# Altium footprint library EEM_FMC_Carrier.PcbLib: 109 footprints (part 5 of 7)
Each footprint in its own frame and in the unit in brackets; x right, y up, seen from the top. Pads: shape width x height; smd on the part's side, far side on the other; paste and mask are expansions set on the pad; w line width, h text height; cw(c..) or ccw(c..) is an arc to the next point about the centre after c.
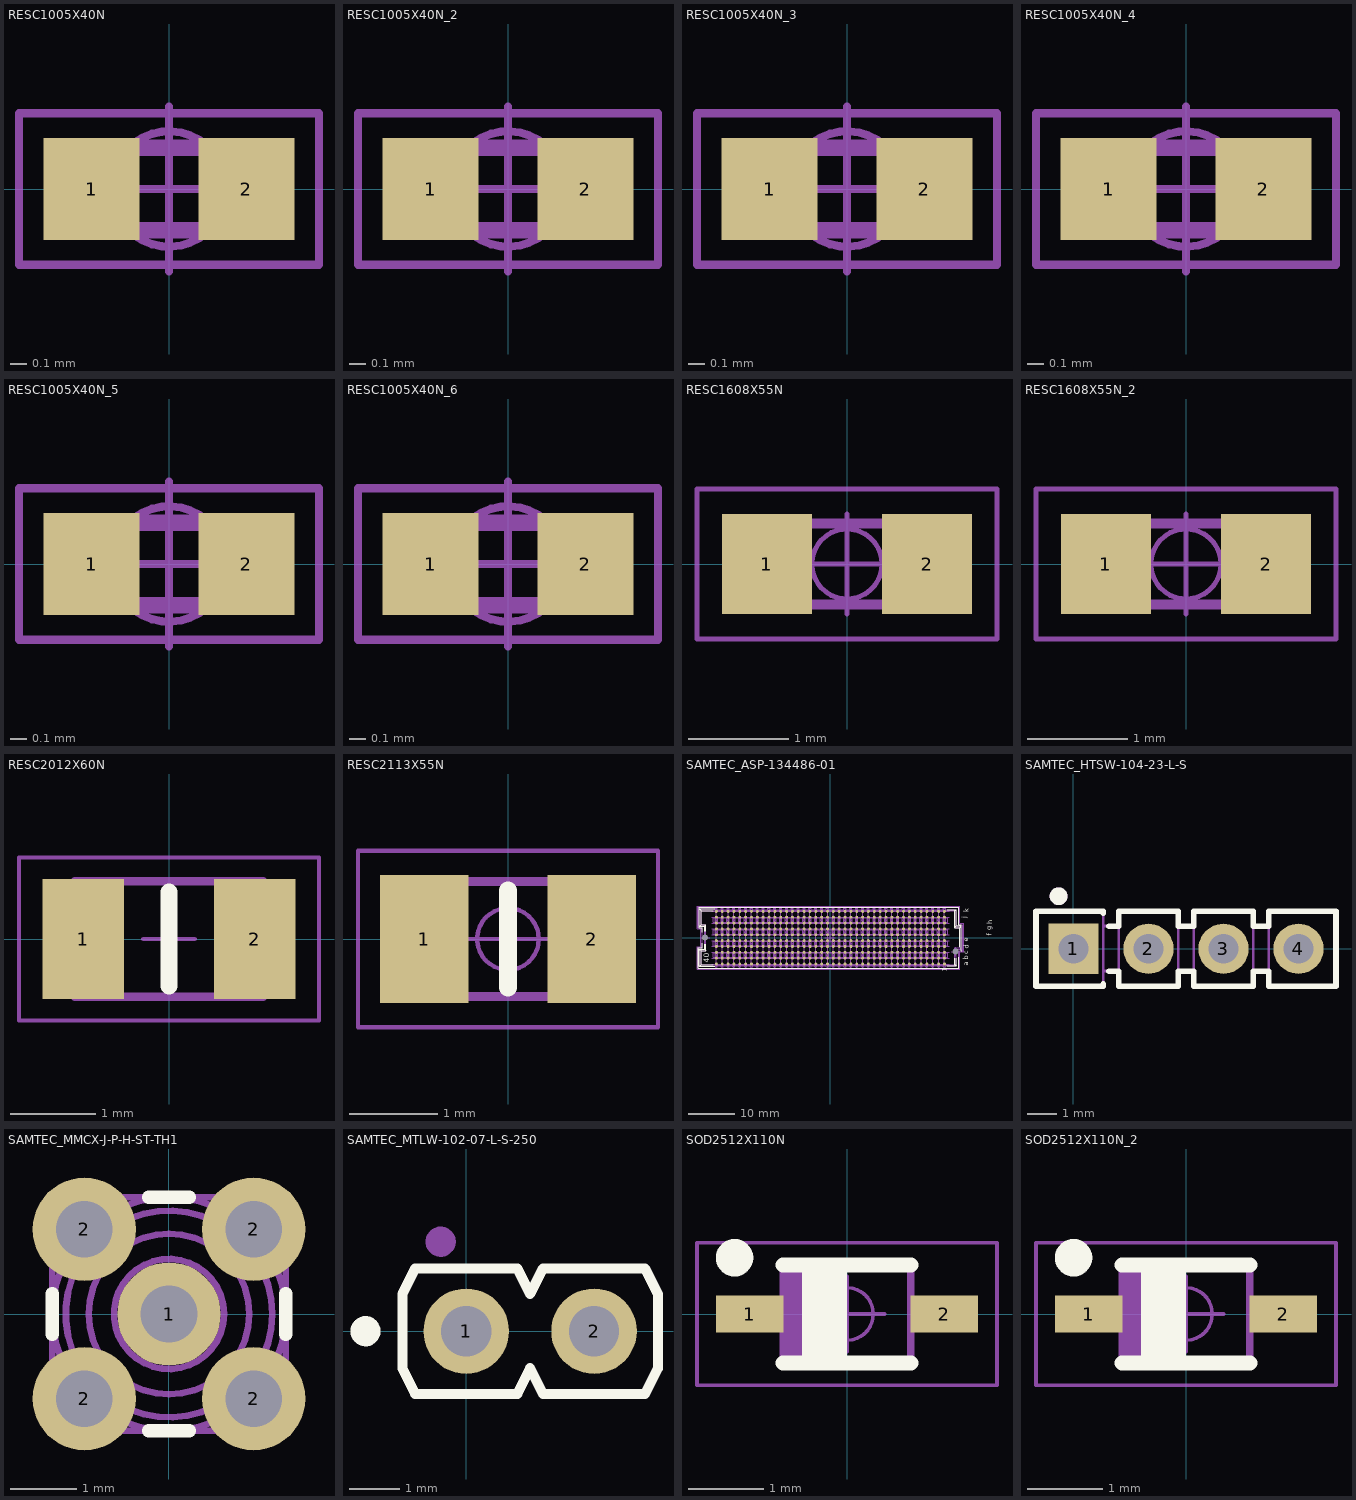
[diagram p4: the footprints below, top view; thin cyan lines are the x and y axes]

## RESC1005X40N [mm]
pads (2):
  rect 0.58x0.62 smd: 1(-0.47,0) 2(0.47,0)
Mechanical 14:
  lines w0.1: -0.5,-0.25 0.5,-0.25 0.5,0.25 -0.5,0.25 -0.5,-0.25
Mechanical 15:
  circle w0.05: c0,0 r0.35
  lines w0.05: -0.5,0 0.5,0 ; 0,-0.5 0,0.5 ; -0.91,-0.46 0.91,-0.46 0.91,0.46 -0.91,0.46 -0.91,-0.46
3D body "RESC1005X40N.stp": height 0.4, standoff 0, extent -0.525,-0.275 0.525,0.275

## RESC1005X40N_2 [mm]
pads (2):
  rect 0.58x0.62 smd: 1(-0.47,0) 2(0.47,0)
Mechanical 14:
  lines w0.1: -0.5,-0.25 0.5,-0.25 0.5,0.25 -0.5,0.25 -0.5,-0.25
Mechanical 15:
  circle w0.05: c0,0 r0.35
  lines w0.05: -0.5,0 0.5,0 ; 0,-0.5 0,0.5 ; -0.91,-0.46 0.91,-0.46 0.91,0.46 -0.91,0.46 -0.91,-0.46
3D body "RESC1005X40N.stp": height 0.4, standoff 0, extent -0.525,-0.275 0.525,0.275

## RESC1005X40N_3 [mm]
pads (2):
  rect 0.58x0.62 smd: 1(-0.47,0) 2(0.47,0)
Mechanical 14:
  lines w0.1: -0.5,-0.25 0.5,-0.25 0.5,0.25 -0.5,0.25 -0.5,-0.25
Mechanical 15:
  circle w0.05: c0,0 r0.35
  lines w0.05: -0.5,0 0.5,0 ; 0,-0.5 0,0.5 ; -0.91,-0.46 0.91,-0.46 0.91,0.46 -0.91,0.46 -0.91,-0.46
3D body "RESC1005X40N.stp": height 0.4, standoff 0, extent -0.525,-0.275 0.525,0.275

## RESC1005X40N_4 [mm]
pads (2):
  rect 0.58x0.62 smd: 1(-0.47,0) 2(0.47,0)
Mechanical 14:
  lines w0.1: -0.5,-0.25 0.5,-0.25 0.5,0.25 -0.5,0.25 -0.5,-0.25
Mechanical 15:
  circle w0.05: c0,0 r0.35
  lines w0.05: -0.5,0 0.5,0 ; 0,-0.5 0,0.5 ; -0.91,-0.46 0.91,-0.46 0.91,0.46 -0.91,0.46 -0.91,-0.46
3D body "RESC1005X40N.stp": height 0.4, standoff 0, extent -0.525,-0.275 0.525,0.275

## RESC1005X40N_5 [mm]
pads (2):
  rect 0.58x0.62 smd: 1(-0.47,0) 2(0.47,0)
Mechanical 14:
  lines w0.1: -0.5,-0.25 -0.5,0.25 0.5,0.25 0.5,-0.25 -0.5,-0.25
Mechanical 15:
  circle w0.05: c0,0 r0.35
  lines w0.05: -0.5,0 0.5,0 ; 0,-0.5 0,0.5 ; -0.91,-0.46 -0.91,0.46 0.91,0.46 0.91,-0.46 -0.91,-0.46
3D body "RESC1005X40N.stp": height 0.4, standoff 0, extent -0.525,-0.275 0.525,0.275

## RESC1005X40N_6 [mm]
pads (2):
  rect 0.58x0.62 smd: 1(-0.47,0) 2(0.47,0)
Mechanical 14:
  lines w0.1: -0.5,-0.25 0.5,-0.25 0.5,0.25 -0.5,0.25 -0.5,-0.25
Mechanical 15:
  circle w0.05: c0,0 r0.35
  lines w0.05: -0.5,0 0.5,0 ; 0,-0.5 0,0.5 ; -0.91,-0.46 0.91,-0.46 0.91,0.46 -0.91,0.46 -0.91,-0.46
3D body "RESC1005X40N.stp": height 0.4, standoff 0, extent -0.525,-0.275 0.525,0.275

## RESC1608X55N [mm]
pads (2):
  rect 0.9x1 smd: 1(-0.8,0) 2(0.8,0)
Mechanical 14:
  lines w0.1: -0.8,-0.405 0.8,-0.405 0.8,0.405 -0.8,0.405 -0.8,-0.405
Mechanical 15:
  circle w0.05: c0,0 r0.35
  lines w0.05: -0.5,0 0.5,0 ; 0,-0.5 0,0.5 ; -1.5,-0.75 -1.5,0.75 1.5,0.75 1.5,-0.75 -1.5,-0.75
3D body "RESC1608X55N.stp": height 0.55, standoff 0, extent -0.875,-0.475 0.875,0.475

## RESC1608X55N_2 [mm]
pads (2):
  rect 0.9x1 smd: 1(-0.8,0) 2(0.8,0)
Mechanical 14:
  lines w0.1: -0.8,-0.405 0.8,-0.405 0.8,0.405 -0.8,0.405 -0.8,-0.405
Mechanical 15:
  circle w0.05: c0,0 r0.35
  lines w0.05: -0.5,0 0.5,0 ; 0,-0.5 0,0.5 ; -1.5,-0.75 -1.5,0.75 1.5,0.75 1.5,-0.75 -1.5,-0.75
3D body "RESC1608X55N.stp": height 0.55, standoff 0, extent -0.875,-0.475 0.875,0.475

## RESC2012X60N [mm]
pads (2):
  rect 0.95x1.4 smd: 1(-1,0) 2(1,0)
Top Overlay:
  lines w0.2: 0,-0.55 0,0.55
Mechanical 14:
  lines w0.1: -1.1,0.675 -1.1,-0.675 1.1,-0.675 1.1,0.675 ; -1.1,0.675 1.1,0.675
Mechanical 15:
  lines w0.05: -0.3,0 0.3,0 ; 0,-0.3 0,0.3 ; -1.75,-0.95 -1.75,0.95 1.75,0.95 1.75,-0.95 -1.75,-0.95
3D body "RESC2012X60N.stp": height 0.6, standoff 0, extent -1.1,-0.675 1.1,0.675

## RESC2113X55N [mm]
pads (2):
  rect 1x1.45 smd: 1(-0.95,0) 2(0.95,0)
Top Overlay:
  lines w0.2: 0,-0.55 0,0.55
Mechanical 14:
  lines w0.1: -1.025,-0.65 1.025,-0.65 1.025,0.65 -1.025,0.65 -1.025,-0.65
Mechanical 15:
  circle w0.05: c0,0 r0.35
  lines w0.05: -0.5,0 0.5,0 ; 0,-0.5 0,0.5 ; -1.7,-1 1.7,-1 1.7,1 -1.7,1 -1.7,-1
3D body "RESC2113X55N.stp": height 0.55, standoff 0, extent -1,-0.625 1,0.625

## SAMTEC_ASP-134486-01 [mm]
pads (402):
  round 0.5 hole 1.3 unplated mask+0.4: 1(-27.19,0) 2(27.19,-3.05)
  round 0.64 smd paste+0.125: a1(24.765,-5.715) a2(23.495,-5.715) a3(22.225,-5.715) a4(20.955,-5.715) a5(19.685,-5.715) a6(18.415,-5.715) a7(17.145,-5.715) a8(15.875,-5.715) a9(14.605,-5.715) a10(13.335,-5.715) a11(12.065,-5.715) a12(10.795,-5.715) a13(9.525,-5.715) a14(8.255,-5.715) a15(6.985,-5.715) a16(5.715,-5.715) a17(4.445,-5.715) a18(3.175,-5.715) a19(1.905,-5.715) a20(0.635,-5.715) a21(-0.635,-5.715) a22(-1.905,-5.715) a23(-3.175,-5.715) a24(-4.445,-5.715) a25(-5.715,-5.715) a26(-6.985,-5.715) a27(-8.255,-5.715) a28(-9.525,-5.715) a29(-10.795,-5.715) a30(-12.065,-5.715) a31(-13.335,-5.715) a32(-14.605,-5.715) a33(-15.875,-5.715) a34(-17.145,-5.715) a35(-18.415,-5.715) a36(-19.685,-5.715) a37(-20.955,-5.715) a38(-22.225,-5.715) a39(-23.495,-5.715) a40(-24.765,-5.715) b1(24.765,-4.445) b2(23.495,-4.445) b3(22.225,-4.445) b4(20.955,-4.445) b5(19.685,-4.445) b6(18.415,-4.445) b7(17.145,-4.445) b8(15.875,-4.445) b9(14.605,-4.445) b10(13.335,-4.445) b11(12.065,-4.445) b12(10.795,-4.445) b13(9.525,-4.445) b14(8.255,-4.445) b15(6.985,-4.445) b16(5.715,-4.445) b17(4.445,-4.445) b18(3.175,-4.445) b19(1.905,-4.445) b20(0.635,-4.445) b21(-0.635,-4.445) b22(-1.905,-4.445) b23(-3.175,-4.445) b24(-4.445,-4.445) b25(-5.715,-4.445) b26(-6.985,-4.445) b27(-8.255,-4.445) b28(-9.525,-4.445) b29(-10.795,-4.445) b30(-12.065,-4.445) b31(-13.335,-4.445) b32(-14.605,-4.445) b33(-15.875,-4.445) b34(-17.145,-4.445) b35(-18.415,-4.445) b36(-19.685,-4.445) b37(-20.955,-4.445) b38(-22.225,-4.445) b39(-23.495,-4.445) b40(-24.765,-4.445) c1(24.765,-3.175) c2(23.495,-3.175) c3(22.225,-3.175) c4(20.955,-3.175) c5(19.685,-3.175) c6(18.415,-3.175) c7(17.145,-3.175) c8(15.875,-3.175) c9(14.605,-3.175) c10(13.335,-3.175) c11(12.065,-3.175) c12(10.795,-3.175) c13(9.525,-3.175) c14(8.255,-3.175) c15(6.985,-3.175) c16(5.715,-3.175) c17(4.445,-3.175) c18(3.175,-3.175) c19(1.905,-3.175) c20(0.635,-3.175) c21(-0.635,-3.175) c22(-1.905,-3.175) c23(-3.175,-3.175) c24(-4.445,-3.175) c25(-5.715,-3.175) c26(-6.985,-3.175) c27(-8.255,-3.175) c28(-9.525,-3.175) c29(-10.795,-3.175) c30(-12.065,-3.175) c31(-13.335,-3.175) c32(-14.605,-3.175) c33(-15.875,-3.175) c34(-17.145,-3.175) c35(-18.415,-3.175) c36(-19.685,-3.175) c37(-20.955,-3.175) c38(-22.225,-3.175) c39(-23.495,-3.175) c40(-24.765,-3.175) d1(24.765,-1.905) d2(23.495,-1.905) d3(22.225,-1.905) d4(20.955,-1.905) d5(19.685,-1.905) d6(18.415,-1.905) d7(17.145,-1.905) d8(15.875,-1.905) d9(14.605,-1.905) d10(13.335,-1.905) d11(12.065,-1.905) d12(10.795,-1.905) d13(9.525,-1.905) d14(8.255,-1.905) d15(6.985,-1.905) d16(5.715,-1.905) d17(4.445,-1.905) d18(3.175,-1.905) d19(1.905,-1.905) d20(0.635,-1.905) d21(-0.635,-1.905) d22(-1.905,-1.905) d23(-3.175,-1.905) d24(-4.445,-1.905) d25(-5.715,-1.905) d26(-6.985,-1.905) d27(-8.255,-1.905) d28(-9.525,-1.905) d29(-10.795,-1.905) d30(-12.065,-1.905) d31(-13.335,-1.905) d32(-14.605,-1.905) d33(-15.875,-1.905) d34(-17.145,-1.905) d35(-18.415,-1.905) d36(-19.685,-1.905) d37(-20.955,-1.905) d38(-22.225,-1.905) d39(-23.495,-1.905) d40(-24.765,-1.905) e1(24.765,-0.635) e2(23.495,-0.635) e3(22.225,-0.635) e4(20.955,-0.635) e5(19.685,-0.635) e6(18.415,-0.635) e7(17.145,-0.635) e8(15.875,-0.635) e9(14.605,-0.635) e10(13.335,-0.635) e11(12.065,-0.635) e12(10.795,-0.635) e13(9.525,-0.635) e14(8.255,-0.635) e15(6.985,-0.635) e16(5.715,-0.635) e17(4.445,-0.635) e18(3.175,-0.635) e19(1.905,-0.635) e20(0.635,-0.635) e21(-0.635,-0.635) e22(-1.905,-0.635) e23(-3.175,-0.635) e24(-4.445,-0.635) e25(-5.715,-0.635) e26(-6.985,-0.635) e27(-8.255,-0.635) e28(-9.525,-0.635) e29(-10.795,-0.635) e30(-12.065,-0.635) e31(-13.335,-0.635) e32(-14.605,-0.635) e33(-15.875,-0.635) e34(-17.145,-0.635) e35(-18.415,-0.635) e36(-19.685,-0.635) e37(-20.955,-0.635) e38(-22.225,-0.635) e39(-23.495,-0.635) e40(-24.765,-0.635) f1(24.765,0.635) f2(23.495,0.635) f3(22.225,0.635) f4(20.955,0.635) f5(19.685,0.635) f6(18.415,0.635) f7(17.145,0.635) f8(15.875,0.635) f9(14.605,0.635) f10(13.335,0.635) f11(12.065,0.635) f12(10.795,0.635) f13(9.525,0.635) f14(8.255,0.635) f15(6.985,0.635) f16(5.715,0.635) f17(4.445,0.635) f18(3.175,0.635) f19(1.905,0.635) f20(0.635,0.635) f21(-0.635,0.635) f22(-1.905,0.635) f23(-3.175,0.635) f24(-4.445,0.635) f25(-5.715,0.635) f26(-6.985,0.635) f27(-8.255,0.635) f28(-9.525,0.635) f29(-10.795,0.635) f30(-12.065,0.635) f31(-13.335,0.635) f32(-14.605,0.635) f33(-15.875,0.635) f34(-17.145,0.635) f35(-18.415,0.635) f36(-19.685,0.635) f37(-20.955,0.635) f38(-22.225,0.635) f39(-23.495,0.635) f40(-24.765,0.635) g1(24.765,1.905) g2(23.495,1.905) g3(22.225,1.905) g4(20.955,1.905) g5(19.685,1.905) g6(18.415,1.905) g7(17.145,1.905) g8(15.875,1.905) g9(14.605,1.905) g10(13.335,1.905) g11(12.065,1.905) g12(10.795,1.905) g13(9.525,1.905) g14(8.255,1.905) g15(6.985,1.905) g16(5.715,1.905) g17(4.445,1.905) g18(3.175,1.905) g19(1.905,1.905) g20(0.635,1.905) g21(-0.635,1.905) g22(-1.905,1.905) g23(-3.175,1.905) g24(-4.445,1.905) g25(-5.715,1.905) g26(-6.985,1.905) g27(-8.255,1.905) g28(-9.525,1.905) g29(-10.795,1.905) g30(-12.065,1.905) g31(-13.335,1.905) g32(-14.605,1.905) g33(-15.875,1.905) g34(-17.145,1.905) g35(-18.415,1.905) g36(-19.685,1.905) g37(-20.955,1.905) g38(-22.225,1.905) g39(-23.495,1.905) g40(-24.765,1.905) h1(24.765,3.175) h2(23.495,3.175) h3(22.225,3.175) h4(20.955,3.175) h5(19.685,3.175) h6(18.415,3.175) h7(17.145,3.175) h8(15.875,3.175) h9(14.605,3.175) h10(13.335,3.175) h11(12.065,3.175) h12(10.795,3.175) h13(9.525,3.175) h14(8.255,3.175) h15(6.985,3.175) h16(5.715,3.175) h17(4.445,3.175) h18(3.175,3.175) h19(1.905,3.175) h20(0.635,3.175) h21(-0.635,3.175) h22(-1.905,3.175) h23(-3.175,3.175) h24(-4.445,3.175) h25(-5.715,3.175) h26(-6.985,3.175) h27(-8.255,3.175) h28(-9.525,3.175) h29(-10.795,3.175) h30(-12.065,3.175) h31(-13.335,3.175) h32(-14.605,3.175) h33(-15.875,3.175) h34(-17.145,3.175) h35(-18.415,3.175) h36(-19.685,3.175) h37(-20.955,3.175) h38(-22.225,3.175) h39(-23.495,3.175) h40(-24.765,3.175) j1(24.765,4.445) j2(23.495,4.445) j3(22.225,4.445) j4(20.955,4.445) j5(19.685,4.445) j6(18.415,4.445) j7(17.145,4.445) j8(15.875,4.445) j9(14.605,4.445) j10(13.335,4.445) j11(12.065,4.445) j12(10.795,4.445) j13(9.525,4.445) j14(8.255,4.445) j15(6.985,4.445) j16(5.715,4.445) j17(4.445,4.445) j18(3.175,4.445) j19(1.905,4.445) j20(0.635,4.445) j21(-0.635,4.445) j22(-1.905,4.445) j23(-3.175,4.445) j24(-4.445,4.445) j25(-5.715,4.445) j26(-6.985,4.445) j27(-8.255,4.445) j28(-9.525,4.445) j29(-10.795,4.445) j30(-12.065,4.445) j31(-13.335,4.445) j32(-14.605,4.445) j33(-15.875,4.445) j34(-17.145,4.445) j35(-18.415,4.445) j36(-19.685,4.445) j37(-20.955,4.445) j38(-22.225,4.445) j39(-23.495,4.445) j40(-24.765,4.445) k1(24.765,5.715) k2(23.495,5.715) k3(22.225,5.715) k4(20.955,5.715) k5(19.685,5.715) k6(18.415,5.715) k7(17.145,5.715) k8(15.875,5.715) k9(14.605,5.715) k10(13.335,5.715) k11(12.065,5.715) k12(10.795,5.715) k13(9.525,5.715) k14(8.255,5.715) k15(6.985,5.715) k16(5.715,5.715) k17(4.445,5.715) k18(3.175,5.715) k19(1.905,5.715) k20(0.635,5.715) k21(-0.635,5.715) k22(-1.905,5.715) k23(-3.175,5.715) k24(-4.445,5.715) k25(-5.715,5.715) k26(-6.985,5.715) k27(-8.255,5.715) k28(-9.525,5.715) k29(-10.795,5.715) k30(-12.065,5.715) k31(-13.335,5.715) k32(-14.605,5.715) k33(-15.875,5.715) k34(-17.145,5.715) k35(-18.415,5.715) k36(-19.685,5.715) k37(-20.955,5.715) k38(-22.225,5.715) k39(-23.495,5.715) k40(-24.765,5.715)
Top Overlay:
  lines w0: 25.201,-6.11 25.201,-6.11
  lines w0.2: -27.889,-1.213 -27.889,-2.197 -28.727,-2.197 -28.727,-6.617 27.889,-6.617 27.889,-4.263 ; -27.889,1.213 -27.889,2.197 -28.449,2.197 -28.449,6.617 27.889,6.617 27.889,2.845 28.451,2.845 28.451,-2.845 28.575,-2.845 ; -27.305,-1.395 -27.305,-2.477 ; -27.305,1.395 -27.305,2.476 ; -27.051,-1.393 -27.051,-2.858 ; -27.051,1.393 -27.051,2.857 ; -25.5,-5.855 -28.067,-5.855 ; -25.5,5.855 -28.067,5.855 ; -25.174,-6.236 -28.448,-6.236 ; -25.174,6.236 -28.448,6.236 ; 25.326,-6.11 27.306,-6.11 27.051,-5.855 27.051,-4.443 ; 25.326,6.109 27.305,6.109 ; 27.305,-6.109 27.305,-4.445 ; 28.067,-1.959 28.067,2.184 ; 28.448,-2.436 28.448,2.565 ; -28.448,-6.236 -28.448,-2.477 ; -28.448,-6.236 -28.067,-5.855 ; -28.448,-2.477 -27.305,-2.477 ; -28.448,-2.477 -28.067,-2.858 ; -28.448,2.476 -28.448,6.236 ; -28.448,2.476 -27.305,2.476 ; -28.448,2.476 -28.067,2.857 ; -28.448,6.236 -28.067,5.855 ; -28.067,-5.855 -28.067,-2.858 ; -28.067,-2.858 -27.051,-2.858 ; -28.067,2.857 -27.051,2.857 ; -28.067,2.857 -28.067,5.855 ; -27.305,-2.477 -27.051,-2.858 ; -27.305,2.476 -27.051,2.857 ; 27.051,2.184 27.051,5.855 27.305,6.109 ; 27.051,2.184 28.067,2.184 ; 27.051,2.184 27.305,2.565 ; 27.305,2.565 28.448,2.565 ; 27.305,2.565 27.305,6.109 ; 28.067,2.184 28.448,2.565
  text "e" at 29.949,-0.836 h1
  text "d" at 29.989,-2.392 h1
  text "c" at 29.972,-3.556 h1
  text "b" at 29.972,-4.826 h1
  text "a" at 29.972,-6.096 h1
  text "f" at 35.001,0.44 h1
  text "h" at 35.176,2.915 h1
  text "g" at 34.926,1.59 h1
  text "j" at 29.501,4.265 h1
  text "k" at 29.989,5.516 h1
  text "40" at -26.289,-5.461 h1.2
  text "1" at 25.29,-7.438 h1
Mechanical 8:
  drawing of 1618 lines, arcs and shapes, not listed
Mechanical 14:
  drawing of 1424 lines, arcs and shapes, not listed
  text "a" at 29.972,-6.096 h1
  text "b" at 29.972,-4.826 h1
  text "c" at 29.972,-3.556 h1
  text "d" at 29.989,-2.392 h1
  text "e" at 29.949,-0.836 h1
  text "f" at 30.116,0.436 h1
  text "h" at 29.972,2.921 h1
  text "g" at 29.862,1.579 h1
  text "j" at 29.989,4.246 h1
  text "k" at 29.989,5.516 h1
  text "40" at -26.289,-5.461 h1.2
  text "1" at 25.29,-7.438 h1
Mechanical 15:
  lines w0.1: -28.977,-6.867 28.139,-6.867 28.139,-3.095 28.977,-3.095 28.977,3.095 28.139,3.095 28.139,6.867 -28.977,6.867 -28.977,1.947 -28.139,1.947 -28.139,-1.947 -28.977,-1.947 -28.977,-6.867
3D body "SAMTEC_ASP-134486-01.stp": height 6.55, standoff -1.27, extent -28.727,-6.618 28.727,6.618

## SAMTEC_HTSW-104-23-L-S [mm]
pads (4):
  rect 1.7x1.7 hole 1: 1(0,0)
  round 1.7 hole 1: 2(2.54,0) 3(5.08,0) 4(7.62,0)
Top Overlay:
  circle w0.3: c-0.508,1.778 r0.15
  lines w0.2: 1.007,-1.2 1.007,-1.27 -1.27,-1.27 -1.27,1.27 1.007,1.27 1.007,1.2 ; 1.2,-0.762 1.533,-0.762 1.533,-1.27 3.547,-1.27 3.547,-0.762 4.073,-0.762 4.073,-1.27 6.087,-1.27 6.087,-0.762 ; 1.2,0.762 1.533,0.762 1.533,1.27 3.547,1.27 3.547,0.762 4.073,0.762 4.073,1.27 6.087,1.27 6.087,0.762 ; 6.087,-0.762 6.613,-0.762 ; 6.087,-0.762 6.613,-0.762 ; 6.087,0.762 6.613,0.762 ; 6.087,0.762 6.613,0.762 ; 6.613,-0.762 6.613,-1.27 8.89,-1.27 8.89,1.27 6.613,1.27 6.613,0.762
Mechanical 8:
  lines w0.1: -0.5,0 0,0 ; 0,-0.5 0,0 ; 0,0.5 0,0 ; 0.5,0 0,0 ; 2.04,0 2.54,0 ; 2.54,-0.5 2.54,0 ; 2.54,0.5 2.54,0 ; 3.04,0 2.54,0 ; 4.58,0 5.08,0 ; 5.08,-0.5 5.08,0 ; 5.08,0.5 5.08,0 ; 5.58,0 5.08,0 ; 7.12,0 7.62,0 ; 7.62,-0.5 7.62,0 ; 7.62,0.5 7.62,0 ; 8.12,0 7.62,0
Mechanical 14:
  circle w0.3: c-0.508,1.778 r0.15
  lines w0.1: 1.007,-0.762 1.533,-0.762 ; 1.007,0.762 1.533,0.762 ; 3.547,-0.762 4.073,-0.762 ; 3.547,0.762 4.073,0.762 ; -1.27,-1.27 -1.27,1.27 1.007,1.27 1.007,-1.27 -1.27,-1.27 ; -0.317,-0.318 -0.318,0.317 0.317,0.317 0.318,-0.317 -0.317,-0.318 ; 1.533,-1.27 3.547,-1.27 3.547,1.27 1.533,1.27 1.533,-1.27 ; 2.223,-0.318 2.222,0.317 2.857,0.317 2.858,-0.317 2.223,-0.318 ; 4.073,-1.27 4.073,1.27 6.087,1.27 6.087,-1.27 4.073,-1.27 ; 4.763,-0.318 4.763,0.317 5.397,0.317 5.398,-0.317 4.763,-0.318 ; 6.087,-0.762 6.613,-0.762 6.087,-0.762 ; 6.087,0.762 6.613,0.762 6.087,0.762 ; 6.613,-1.27 6.613,1.27 8.89,1.27 8.89,-1.27 6.613,-1.27 ; 7.303,-0.318 7.303,0.317 7.938,0.317 7.938,-0.318 7.303,-0.318
3D body "SAMTEC_TSW-104-23-L-S.stp": height 8.38, standoff -2.92, extent -1.27,-1.27 8.89,1.27

## SAMTEC_MMCX-J-P-H-ST-TH1 [mm]
pads (5):
  round 1.55 hole 0.85: 1(0,0) 2(-1.27,-1.27) 2(-1.27,1.27) 2(1.27,-1.27) 2(1.27,1.27)
Top Overlay:
  lines w0.2: -1.75,-0.308 -1.75,0.308 ; -0.308,-1.75 0.308,-1.75 ; -0.308,1.75 0.308,1.75 ; 1.75,-0.308 1.75,0.308
Mechanical 8:
  lines w0.1: -1.77,-1.27 -1.27,-1.27 ; -1.77,1.27 -1.27,1.27 ; -1.27,-1.77 -1.27,-1.27 ; -1.27,-0.77 -1.27,-1.27 ; -1.27,0.77 -1.27,1.27 ; -1.27,1.77 -1.27,1.27 ; -0.77,-1.27 -1.27,-1.27 ; -0.77,1.27 -1.27,1.27 ; -0.5,0 0,0 ; 0,-0.5 0,0 ; 0,0.5 0,0 ; 0.5,0 0,0 ; 0.77,-1.27 1.27,-1.27 ; 0.77,1.27 1.27,1.27 ; 1.27,-1.77 1.27,-1.27 ; 1.27,-0.77 1.27,-1.27 ; 1.27,0.77 1.27,1.27 ; 1.27,1.77 1.27,1.27 ; 1.77,-1.27 1.27,-1.27 ; 1.77,1.27 1.27,1.27
Mechanical 14:
  circle w0.1: c0,0 r1.549
  circle w0.1: c0,0 r1.75
  circle w0.1: c0.002,0 r0.251
  circle w0.1: c0,0 r0.825
  circle w0.1: c0,0 r1.205
  lines w0.1: -1.75,-1.414 ccw(c0,0) -1.414,-1.75 1.414,-1.75 ccw(c0,0) 1.75,-1.414 1.75,1.414 ccw(c0,0) 1.414,1.75 -1.414,1.75 ccw(c0,0) -1.75,1.414 -1.75,-1.414
3D body "SAMTEC_MMCX-J-P-H-ST-TH1.stp": height 4.35, standoff -3.05, extent -1.75,-1.75 1.75,1.75

## SAMTEC_MTLW-102-07-L-S-250 [mm]
pads (2):
  round 1.7 hole 1: 1(0,0) 2(2.54,0)
Top Overlay:
  circle w0.3: c-2,0 r0.15
  lines w0.2: -1.27,-0.737 -1.27,0.737 -1.016,1.245 1.016,1.245 1.27,0.737 1.524,1.245 3.556,1.245 3.81,0.737 3.81,-0.737 3.556,-1.245 1.524,-1.245 1.27,-0.737 1.016,-1.245 -1.016,-1.245 -1.27,-0.737
Mechanical 8:
  lines w0.1: -0.5,0 0,0 ; 0,-0.5 0,0 ; 0,0.5 0,0 ; 0.5,0 0,0 ; 2.04,0 2.54,0 ; 2.54,-0.5 2.54,0 ; 2.54,0.5 2.54,0 ; 3.04,0 2.54,0
Mechanical 14:
  circle w0.3: c-0.508,1.778 r0.15
  lines w0.1: -1.27,-0.737 -1.016,-1.245 1.016,-1.245 1.27,-0.737 1.524,-1.245 3.556,-1.245 3.81,-0.737 3.81,0.737 3.556,1.245 1.524,1.245 1.27,0.737 1.016,1.245 -1.016,1.245 -1.27,0.737 -1.27,-0.737 ; -0.317,-0.318 0.318,-0.318 0.318,0.318 -0.317,0.318 -0.317,-0.318 ; 2.223,-0.318 2.858,-0.318 2.858,0.318 2.223,0.318 2.223,-0.318
3D body "SAMTEC_MTLW-102-07-L-S-250.stp": height 7.87, standoff -3.05, extent -1.27,-1.244 3.81,1.245

## SOD2512X110N [mm]
pads (2):
  rect 0.9x0.5 smd: 1(-1.3,0) 2(1.3,0)
Top Overlay:
  circle w0.25: c-1.5,0.75 r0.125
  lines w0.2: -0.85,-0.65 0.85,-0.65 ; -0.85,0.65 0.85,0.65 ; -0.5,-0.65 -0.5,0.65 ; -0.3,-0.65 -0.3,0.65 ; -0.1,-0.65 -0.1,0.65
Mechanical 14:
  lines w0.1: -0.75,-0.625 -0.75,0.625 ; -0.65,-0.625 -0.65,0.625 ; -0.55,-0.625 -0.55,0.625 ; -0.45,-0.625 -0.45,0.625 ; -0.35,-0.625 -0.35,0.625 ; -0.25,-0.625 -0.25,0.625 ; -0.15,-0.625 -0.15,0.625 ; -0.85,-0.625 0.85,-0.625 0.85,0.625 -0.85,0.625 ; -0.85,-0.625 -0.85,0.625 ; -0.85,-0.625 -0.85,0.625
Mechanical 15:
  circle w0.05: c0,0 r0.35
  lines w0.05: -0.5,0 0.5,0 ; 0,-0.5 0,0.5 ; -2,-0.95 2,-0.95 2,0.95 -2,0.95 -2,-0.95
3D body "SOD2512X110N(SOD-323).stp": height 1.1, standoff 0, extent -1.35,-0.675 1.35,0.675

## SOD2512X110N_2 [mm]
pads (2):
  rect 0.9x0.5 smd: 1(-1.3,0) 2(1.3,0)
Top Overlay:
  circle w0.25: c-1.5,0.75 r0.125
  lines w0.2: -0.85,-0.65 0.85,-0.65 ; -0.85,0.65 0.85,0.65 ; -0.5,-0.65 -0.5,0.65 ; -0.3,-0.65 -0.3,0.65 ; -0.1,-0.65 -0.1,0.65
Mechanical 14:
  lines w0.1: -0.75,-0.625 -0.75,0.625 ; -0.65,-0.625 -0.65,0.625 ; -0.55,-0.625 -0.55,0.625 ; -0.45,-0.625 -0.45,0.625 ; -0.35,-0.625 -0.35,0.625 ; -0.25,-0.625 -0.25,0.625 ; -0.15,-0.625 -0.15,0.625 ; -0.85,-0.625 0.85,-0.625 0.85,0.625 -0.85,0.625 ; -0.85,-0.625 -0.85,0.625 ; -0.85,-0.625 -0.85,0.625
Mechanical 15:
  circle w0.05: c0,0 r0.35
  lines w0.05: -0.5,0 0.5,0 ; 0,-0.5 0,0.5 ; -2,-0.95 2,-0.95 2,0.95 -2,0.95 -2,-0.95
3D body "SOD2512X110N(SOD-323).stp": height 1.1, standoff 0, extent -1.35,-0.675 1.35,0.675